# Altium footprint library RM_addition.PcbLib: 124 footprints (part 7 of 8)
Each footprint in its own frame and in the unit in brackets; x right, y up, seen from the top. Pads: shape width x height; smd on the part's side, far side on the other; paste and mask are expansions set on the pad; w line width, h text height; cw(c..) or ccw(c..) is an arc to the next point about the centre after c.
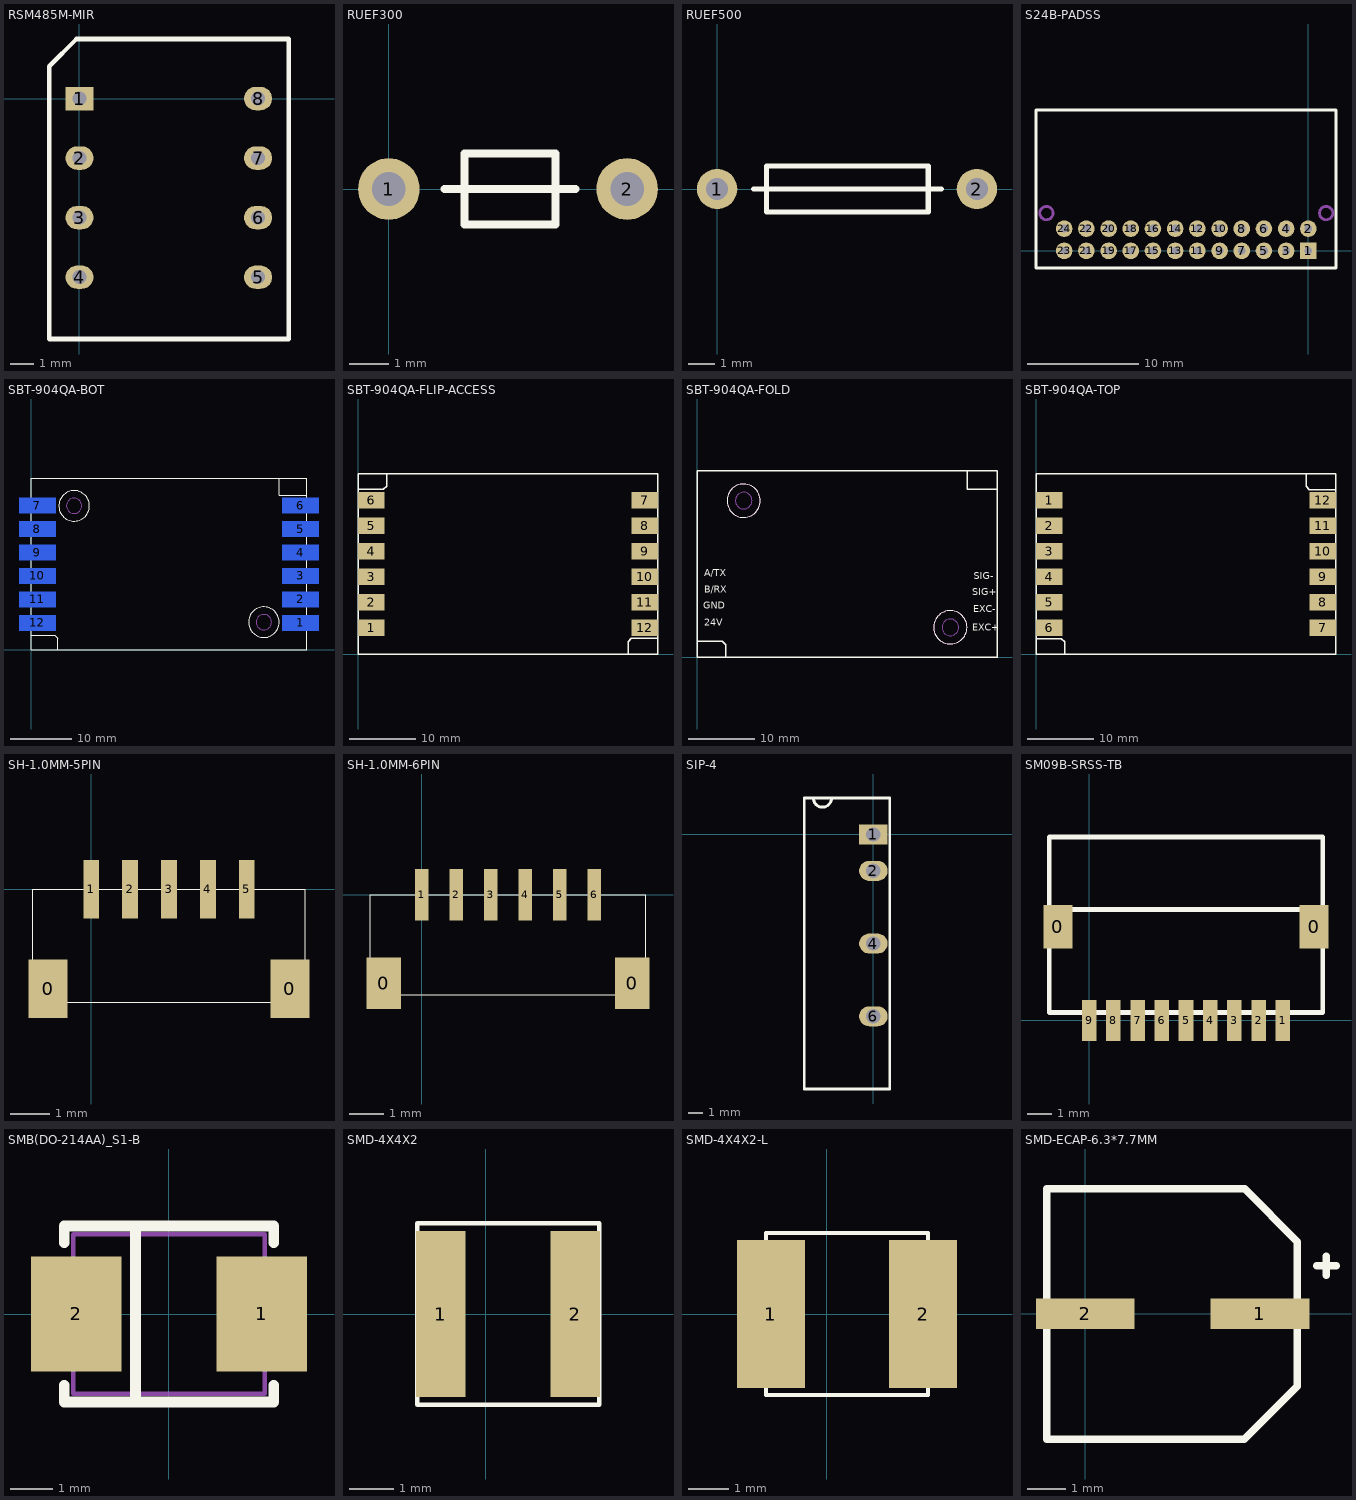
[diagram p6: the footprints below, top view; thin cyan lines are the x and y axes]

## RSM485M-MIR [mm]
pads (8):
  rect 1.2x1 hole 0.6: 1(0,0)
  oval 1.2x1 hole 0.6: 2(0,-2.54) 3(0,-5.08) 4(0,-7.62) 5(7.62,-7.62) 6(7.62,-5.08) 7(7.62,-2.54) 8(7.62,0)
Top Overlay:
  lines w0.2: -1.29,-10.26 -1.29,1.377 -0.127,2.54 8.93,2.54 8.93,-10.26 -1.27,-10.26

## RUEF300 [mm]
pads (2):
  round 1.55 hole 0.85: 1(0,0) 2(6,0)
Top Overlay:
  lines w0.2: 1.397,0 3.95,0 4.699,0 ; 1.905,-0.889 4.191,-0.889 4.191,0.889 1.905,0.889 1.905,0 1.905,-0.889

## RUEF500 [mm]
pads (2):
  round 1.55 hole 0.85: 1(0,0) 2(10,0)
Top Overlay:
  lines w0.2: 1.397,0 3.95,0 8.636,0 ; 1.905,-0.889 1.905,0 1.905,0.889 8.128,0.889 8.128,-0.889 1.905,-0.889

## S24B-PADSS [mm]
pads (24):
  rect 1.5x1.5 hole 0.7: 1(0,0)
  round 1.5 hole 0.7: 2(0,2) 3(-2,0) 4(-2,2) 5(-4,0) 6(-4,2) 7(-6,0) 8(-6,2) 9(-8,0) 10(-8,2) 11(-10,0) 12(-10,2) 13(-12,0) 14(-12,2) 15(-14,0) 16(-14,2) 17(-16,0) 18(-16,2) 19(-18,0) 20(-18,2) 21(-20,0) 22(-20,2) 23(-22,0) 24(-22,2)
Top Overlay:
  lines w0.254: -24.54,-1.56 2.49,-1.56 2.49,12.7 -24.54,12.7 -24.54,-1.56
Mechanical 1:
  circle w0.254: c-23.6,3.4 r0.6
  circle w0.254: c1.6,3.4 r0.6

## SBT-904QA-BOT [mm]
height 10.5
pads (12):
  rect 6x2.5 smd far side: 1(44,4.381) 2(44,8.211) 3(44,12.041) 4(44,15.871) 5(44,19.701) 6(44,23.531) 7(1,23.531) 8(1,19.701) 9(1,15.871) 10(1,12.041) 11(1,8.211) 12(1,4.381)
Top Overlay:
  circle w0.013: c7,23.5 r2.5
  circle w0.013: c38,4.5 r2.5
  lines w0.2: 0,2.385 3.81,2.385 4.318,1.877 4.318,0 ; 40.513,28 40.513,25.245 45,25.245 ; 0,0 45,0 45,28 0,28 0,0
Mechanical 1:
  circle w0.013: c7,23.5 r1.25
  circle w0.013: c38,4.5 r1.25

## SBT-904QA-FLIP-ACCESS [mm]
height 10.5
pads (12):
  rect 4x2.5 smd: 1(2,4) 2(2,7.83) 3(2,11.66) 4(2,15.49) 5(2,19.32) 6(2,23.15) 7(43,23.15) 8(43,19.32) 9(43,15.49) 10(43,11.671) 11(43,7.83) 12(43,4)
Top Overlay:
  lines w0.2: 0,24.765 3.81,24.765 4.318,25.273 4.318,27.15 ; 40.513,0 40.513,1.905 41.021,2.413 45,2.413 ; 0,0 45,0 45,27.15 0,27.15 0,0

## SBT-904QA-FOLD [mm]
height 10.5
Top Overlay:
  circle w0.013: c7,23.5 r2.5
  circle w0.013: c38,4.5 r2.5
  lines w0.2: 0,2.385 3.81,2.385 4.318,1.877 4.318,0 ; 40.513,28 40.513,25.245 45,25.245 ; 0,0 45,0 45,28 0,28 0,0
  text "SIG-" at 41.5,11.322 h1.8
  text "SIG+" at 41.3,8.922 h1.8
  text "EXC-" at 41.4,6.419 h1.8
  text "EXC+" at 41.3,3.619 h1.8
  text "A/TX" at 1.1,11.819 h1.8
  text "B/RX" at 1.1,9.319 h1.8
  text "GND" at 0.9,6.919 h1.8
  text "24V" at 1.1,4.4 h1.8
Keep-Out Layer:
  circle w0.013: c7,23.5 r2.5
  circle w0.013: c38,4.5 r2.5
Mechanical 1:
  circle w0.013: c7,23.5 r1.25
  circle w0.013: c38,4.5 r1.25

## SBT-904QA-TOP [mm]
height 10.5
pads (12):
  rect 4x2.5 smd: 1(2,23.15) 2(2,19.32) 3(2,15.49) 4(2,11.66) 5(2,7.83) 6(2,4) 7(43,4) 8(43,7.83) 9(43,11.66) 10(43,15.479) 11(43,19.32) 12(43,23.15)
Top Overlay:
  lines w0.2: 0,2.385 3.81,2.385 4.318,1.877 4.318,0 ; 40.513,27.15 40.513,25.245 41.021,24.737 45,24.737 ; 0,0 0,27.15 45,27.15 45,0 0,0

## SH-1.0MM-5PIN [mm]
pads (7):
  rect 1x1.5 smd: 0(-1.1,-2.56) 0(5.1,-2.56)
  rect 0.4x1.5 smd: 1(0,0) 2(1,0) 3(2,0) 4(3,0) 5(4,0)
Top Overlay:
  lines w0.013: -1.5,-2.9 -1.5,0 5.5,0 5.5,-2.9 -1.5,-2.9

## SH-1.0MM-6PIN [mm]
pads (8):
  rect 1x1.5 smd: 0(-1.1,-2.56) 0(6.1,-2.56)
  rect 0.4x1.5 smd: 1(0,0) 2(1,0) 3(2,0) 4(3,0) 5(4,0) 6(5,0)
Top Overlay:
  lines w0.013: -1.5,-2.9 -1.5,0 6.5,0 6.5,-2.9 -1.5,-2.9

## SIP-4 [mm]
pads (4):
  rect 2x1.4 hole 1: 1(0,0)
  oval 2x1.4 hole 1: 2(0,-2.54) 4(0,-7.62) 6(0,-12.7)
Top Overlay:
  lines w0.2: -4.191,2.54 ccw(c-3.556,2.54) -2.921,2.54 ; -4.826,-17.78 1.143,-17.78 1.143,2.54 -4.826,2.54 -4.826,-17.78

## SM09B-SRSS-TB [mm] "JST SHR"
pads (11):
  rect 1.2x1.8 smd: 0(-1.3,3.875) 0(9.3,3.875)
  rect 0.6x1.7 smd: 1(8,0) 2(7,0) 3(6,0) 4(5,0) 5(4,0) 6(3,0) 7(2,0) 8(1,0) 9(0,0)
Top Overlay:
  lines w0.2: -1.651,4.575 9.652,4.575 ; -1.651,4.575 -1.651,0.325 9.652,0.325 9.652,4.575 ; -1.651,4.575 -1.651,7.575 9.652,7.575 9.652,4.575

## SMB(DO-214AA)_S1-B [mm]
pads (2):
  rect 2.159x2.743 smd: 1(2.21,0) 2(-2.21,0)
Top Overlay:
  lines w0.254: -2.5,-1.7 -2.5,-2.1 2.5,-2.1 2.5,-1.7 ; -2.5,1.7 -2.5,2.1 2.5,2.1 2.5,1.7 ; -0.8,-2.1 -0.8,2.1
Mechanical 13:
  lines w0.1: -2.285,-1.905 2.285,-1.905 2.285,1.905 -2.285,1.905 -2.285,-1.905

## SMD-4X4X2 [mm] "SMD 4.0x4.0x2mm"
pads (2):
  rect 1.1x3.7 smd: 1(-1,0) 2(2,0)
Top Overlay:
  lines w0.1: -1.524,-2.032 -1.524,2.032 2.54,2.032 2.54,-2.032 -1.524,-2.032

## SMD-4X4X2-L [mm] "SMD 4.0x4.0x2mm"
pads (2):
  rect 1.7x3.7 smd: 1(-1.397,0) 2(2.413,0)
Top Overlay:
  lines w0.1: -1.524,-2.032 -1.524,2.032 2.54,2.032 2.54,-2.032 -1.524,-2.032

## SMD-ECAP-6.3*7.7MM [mm]
pads (2):
  rect 2.6x0.8 smd: 1(4.6,0) 2(0,0)
Top Overlay:
  lines w0.2: 6.096,1.27 6.604,1.27 ; 6.35,1.016 6.35,1.524 ; -1.012,-3.302 -1.012,3.298 4.195,3.298 5.588,1.905 5.588,-1.905 4.191,-3.302 -1.012,-3.302